# EAGLE library part BEE-RFBEE (library moudle)
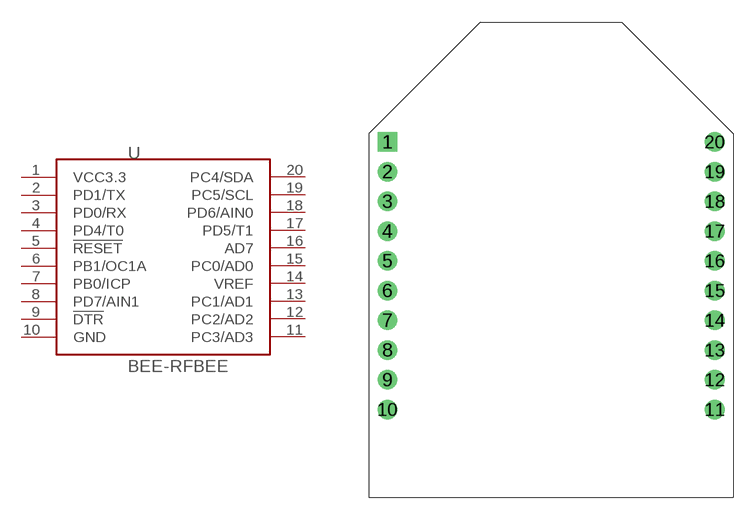
[diagram p20: symbol with the pads of 20P-DIP-2.0-PRO; footprint 20P-DIP-2.0-PRO]

Designator prefix U

## BEE-RFBEE  [20P-DIP-2.0-PRO]
1  VCC3.3
2  PD1/TX
3  PD0/RX
4  PD4/T0
5  !RESET
6  PB1/OC1A
7  PB0/ICP
8  PD7/AIN1
9  !DTR
10  GND
11  PC3/AD3
12  PC2/AD2
13  PC1/AD1
14  VREF
15  PC0/AD0
16  AD7
17  PD5/T1
18  PD6/AIN0
19  PC5/SCL
20  PC4/SDA

## Footprint 20P-DIP-2.0-PRO (pad centres in mm)
drill 0.813 square: 1 -11,9
drill 0.813: 2 -11,7; 3 -11,5; 4 -11,3; 5 -11,1; 6 -11,-1; 7 -11,-3; 8 -11,-5; 9 -11,-7; 10 -11,-9; 11 11,-9; 12 11,-7; 13 11,-5; 14 11,-3; 15 11,-1; 16 11,1; 17 11,3; 18 11,5; 19 11,7; 20 11,9